# EAGLE library part CFS-0401MC (library CFS-0401MC - Nidec Copal Electronics)
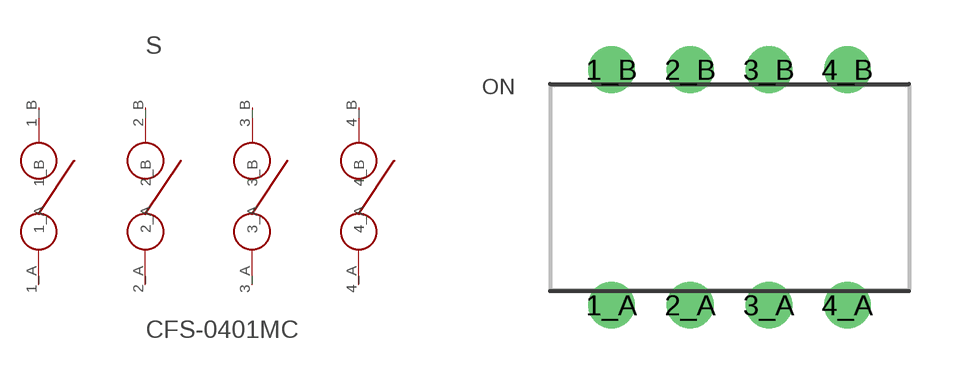
[diagram p0: symbol with the pads of DIP_SPST-4; footprint DIP_SPST-4]

Designator prefix S

## CFS-0401MC  [DIP_SPST-4]
1_A  1_A  pas
1_B  1_B  pas
2_A  2_A  pas
2_B  2_B  pas
3_A  3_A  pas
3_B  3_B  pas
4_A  4_A  pas
4_B  4_B  pas

## Footprint DIP_SPST-4 (pad centres in mm)
drill 1: 1_A -3.81,-3.81; 1_B -3.81,3.81; 2_A -1.27,-3.81; 2_B -1.27,3.81; 3_A 1.27,-3.81; 3_B 1.27,3.81; 4_A 3.81,-3.81; 4_B 3.81,3.81